# EAGLE library part LSM330 (library igorsales)
LSM330 http://www.st.com/web/en/resource/technical/document/datasheet/DM00059856.pdf
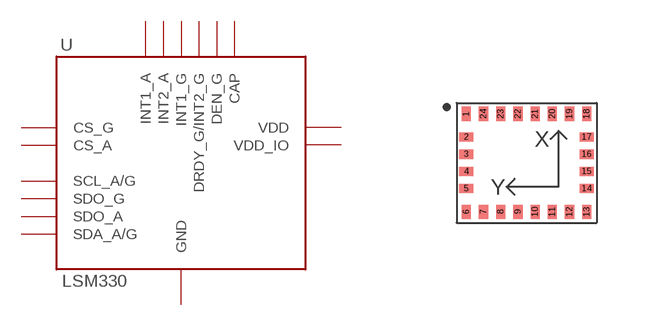
[diagram p7: symbol with the pads of LGA-24-3.5X3X1MM; footprint LGA-24-3.5X3X1MM]

Designator prefix -

## LSM330  [LGA-24-3.5X3X1MM]
1  VDD_IO  pwr
2  SCL_A/G  in
3  VDD_IO  pwr
4  SDA_A/G
5  SDO_G
6  SDO_A
7  CS_G  in
8  CS_A  in
9  DRDY_G/INT2_G  out
10  INT1_G  out
11  INT1_A  out
12  INT2_A  out
13  DEN_G  in
14  GND  pwr
15  GND  pwr
16  GND  pwr
17  GND  pwr
18  GND  pwr
19  GND  pwr
20  GND  pwr
21  CAP
22  VDD  pwr
23  VDD  pwr
24  VDD  pwr

## Footprint LGA-24-3.5X3X1MM (pad centres in mm)
smd 0.23 x 0.35: 1 -1.505,1.225; 6 -1.505,-1.225; 7 -1.075,-1.225; 8 -0.645,-1.225; 9 -0.215,-1.225; 10 0.215,-1.225; 11 0.645,-1.225; 12 1.075,-1.225; 13 1.505,-1.225; 18 1.505,1.225; 19 1.075,1.225; 20 0.645,1.225; 21 0.215,1.225; 22 -0.215,1.225; 23 -0.645,1.225; 24 -1.075,1.225
smd 0.35 x 0.23: 2 -1.505,0.645; 3 -1.505,0.215; 4 -1.505,-0.215; 5 -1.505,-0.645; 14 1.505,-0.645; 15 1.505,-0.215; 16 1.505,0.215; 17 1.505,0.645